# Altium schematic symbol library STM32.SchLib: 2 symbols
Pins are listed as number, name and electrical type; pins without a type are passive.

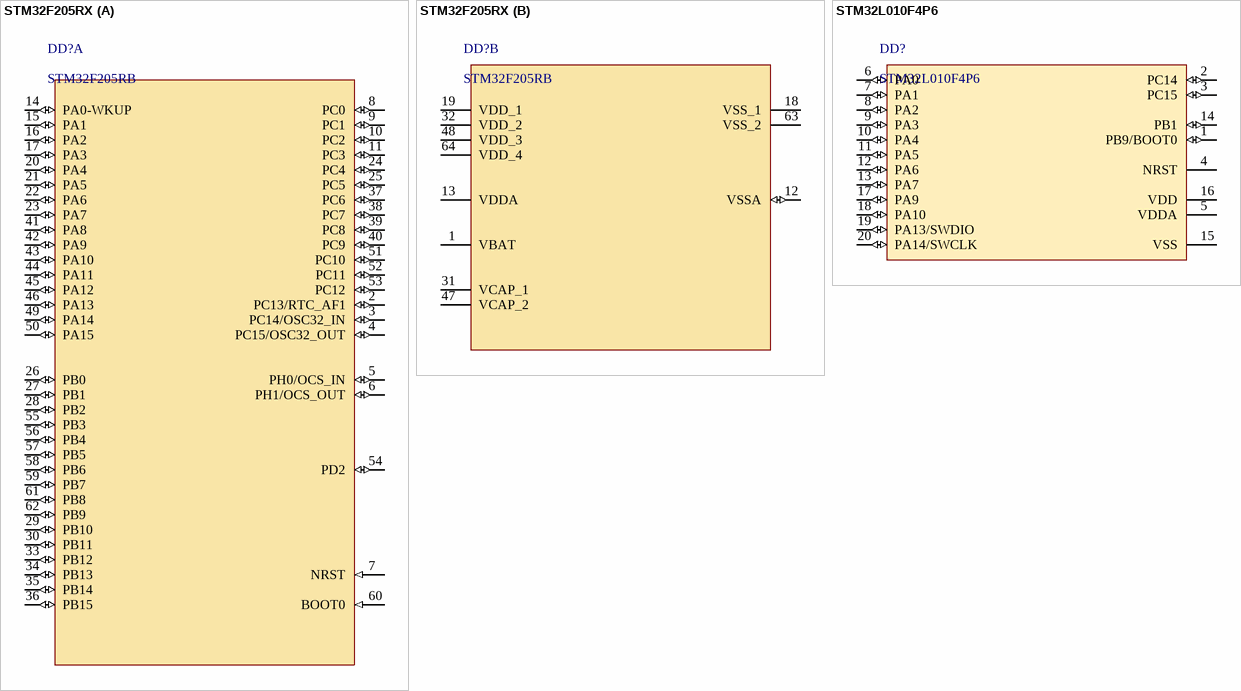
[diagram p0: symbols STM32F205RX to STM32L010F4P6]

## STM32F205RX
designator DD?, comment STM32F205RB
Name: STM32F205RB
footprint TSQFP50P1200X1200X160-64N - STM32 (TSQFP, 64-Leads, Body 10,00x10,00mm, Pitch 0,50mm, IPC Medium Density)
part A pins: 2 PC13/RTC_AF1 (io), 3 PC14/OSC32_IN (io), 4 PC15/OSC32_OUT (io), 5 PH0/OCS_IN (io), 6 PH1/OCS_OUT (io), 7 NRST (in), 8 PC0 (io), 9 PC1 (io), 10 PC2 (io), 11 PC3 (io), 14 PA0-WKUP (io), 15 PA1 (io), 16 PA2 (io), 17 PA3 (io), 20 PA4 (io), 21 PA5 (io), 22 PA6 (io), 23 PA7 (io), 24 PC4 (io), 25 PC5 (io), 26 PB0 (io), 27 PB1 (io), 28 PB2 (io), 29 PB10 (io), 30 PB11 (io), 33 PB12 (io), 34 PB13 (io), 35 PB14 (io), 36 PB15 (io), 37 PC6 (io), 38 PC7 (io), 39 PC8 (io), 40 PC9 (io), 41 PA8 (io), 42 PA9 (io), 43 PA10 (io), 44 PA11 (io), 45 PA12 (io), 46 PA13 (io), 49 PA14 (io), 50 PA15 (io), 51 PC10 (io), 52 PC11 (io), 53 PC12 (io), 54 PD2 (io), 55 PB3 (io), 56 PB4 (io), 57 PB5 (io), 58 PB6 (io), 59 PB7 (io), 60 BOOT0 (in), 61 PB8 (io), 62 PB9 (io)
part B pins: 1 VBAT (power), 12 VSSA (io), 13 VDDA (power), 18 VSS_1 (power), 19 VDD_1 (power), 31 VCAP_1 (power), 32 VDD_2 (power), 47 VCAP_2 (power), 48 VDD_3 (power), 63 VSS_2 (power), 64 VDD_4 (power)

## STM32L010F4P6
designator DD?
Value line ultra-low-power 32-bit MCU Arm®-based Cortex®-M0+; Name: STM32L010F4P6
footprint TSSOP20 – 20-lead(STM8) - duplicate (TSOP, 20-Leads, Body 6,50x4,40mm, Pitch 0,65mm, IPC Medium Density)
pins: 1 PB9/BOOT0 (io), 2 PC14 (io), 3 PC15 (io), 4 NRST, 5 VDDA (power), 6 PA0 (io), 7 PA1 (io), 8 PA2 (io), 9 PA3 (io), 10 PA4 (io), 11 PA5 (io), 12 PA6 (io), 13 PA7 (io), 14 PB1 (io), 15 VSS (power), 16 VDD (power), 17 PA9 (io), 18 PA10 (io), 19 PA13/SWDIO (io), 20 PA14/SWCLK (io)